# Altium footprint library MD_SODIMM-2.5V-PCB.PcbLib: 1 footprints
Each footprint in its own frame and in the unit in brackets; x right, y up, seen from the top. Pads: shape width x height; smd on the part's side, far side on the other; paste and mask are expansions set on the pad; w line width, h text height; cw(c..) or ccw(c..) is an arc to the next point about the centre after c.
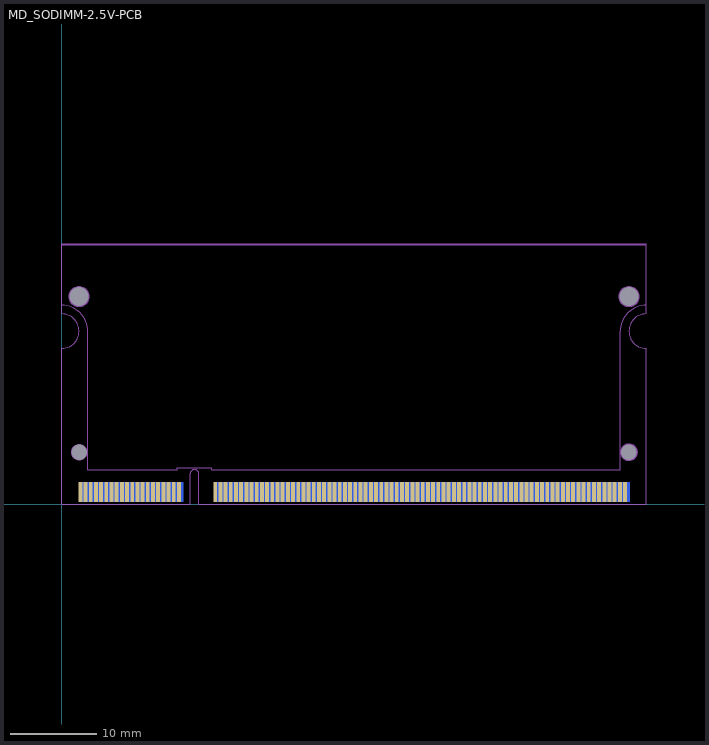
[diagram p0: the footprint, top view; thin cyan lines are the x and y axes]

## MD_SODIMM-2.5V-PCB [mm] "DDR1 & DDR2 200-pins SODIMM MODULE 0.6MM PITCH 2.5V"
pads (204):
  rect 0x0 hole 1.8 unplated mask+0.9: 0(2,6) 0(65.6,6)
  rect 0x0 hole 2.2 unplated mask+1.1: 0(2,24) 0(65.6,24)
  rect 0.45x2.3 smd paste-100: 1(2.15,1.4) 3(2.75,1.4) 5(3.35,1.4) 7(3.95,1.4) 9(4.55,1.4) 11(5.15,1.4) 13(5.75,1.4) 15(6.35,1.4) 17(6.95,1.4) 19(7.55,1.4) 21(8.15,1.4) 23(8.75,1.4) 25(9.35,1.4) 27(9.95,1.4) 29(10.55,1.4) 31(11.15,1.4) 33(11.75,1.4) 35(12.35,1.4) 37(12.95,1.4) 39(13.55,1.4) 41(17.75,1.4) 43(18.35,1.4) 45(18.95,1.4) 47(19.55,1.4) 49(20.15,1.4) 51(20.75,1.4) 53(21.35,1.4) 55(21.95,1.4) 57(22.55,1.4) 59(23.15,1.4) 61(23.75,1.4) 63(24.35,1.4) 65(24.95,1.4) 67(25.55,1.4) 69(26.15,1.4) 71(26.75,1.4) 73(27.35,1.4) 75(27.95,1.4) 77(28.55,1.4) 79(29.15,1.4) 81(29.75,1.4) 83(30.35,1.4) 85(30.95,1.4) 87(31.55,1.4) 89(32.15,1.4) 91(32.75,1.4) 93(33.35,1.4) 95(33.95,1.4) 97(34.55,1.4) 99(35.15,1.4) 101(35.75,1.4) 103(36.35,1.4) 105(36.95,1.4) 107(37.55,1.4) 109(38.15,1.4) 111(38.75,1.4) 113(39.35,1.4) 115(39.95,1.4) 117(40.55,1.4) 119(41.15,1.4) 121(41.75,1.4) 123(42.35,1.4) 125(42.95,1.4) 127(43.55,1.4) 129(44.15,1.4) 131(44.75,1.4) 133(45.35,1.4) 135(45.95,1.4) 137(46.55,1.4) 139(47.15,1.4) 141(47.75,1.4) 143(48.35,1.4) 145(48.95,1.4) 147(49.55,1.4) 149(50.15,1.4) 151(50.75,1.4) 153(51.35,1.4) 155(51.95,1.4) 157(52.55,1.4) 159(53.15,1.4) 161(53.75,1.4) 163(54.35,1.4) 165(54.95,1.4) 167(55.55,1.4) 169(56.15,1.4) 171(56.75,1.4) 173(57.35,1.4) 175(57.95,1.4) 177(58.55,1.4) 179(59.15,1.4) 181(59.75,1.4) 183(60.35,1.4) 185(60.95,1.4) 187(61.55,1.4) 189(62.15,1.4) 191(62.75,1.4) 193(63.35,1.4) 195(63.95,1.4) 197(64.55,1.4) 199(65.15,1.4)
  rect 0.45x2.3 smd far side paste-100: 2(2.45,1.4) 4(3.05,1.4) 6(3.65,1.4) 8(4.25,1.4) 10(4.85,1.4) 12(5.45,1.4) 14(6.05,1.4) 16(6.65,1.4) 18(7.25,1.4) 20(7.85,1.4) 22(8.45,1.4) 24(9.05,1.4) 26(9.65,1.4) 28(10.25,1.4) 30(10.85,1.4) 32(11.45,1.4) 34(12.05,1.4) 36(12.65,1.4) 38(13.25,1.4) 40(13.85,1.4) 42(18.05,1.4) 44(18.65,1.4) 46(19.25,1.4) 48(19.85,1.4) 50(20.45,1.4) 52(21.05,1.4) 54(21.65,1.4) 56(22.25,1.4) 58(22.85,1.4) 60(23.45,1.4) 62(24.05,1.4) 64(24.65,1.4) 66(25.25,1.4) 68(25.85,1.4) 70(26.45,1.4) 72(27.05,1.4) 74(27.65,1.4) 76(28.25,1.4) 78(28.85,1.4) 80(29.45,1.4) 82(30.05,1.4) 84(30.65,1.4) 86(31.25,1.4) 88(31.85,1.4) 90(32.45,1.4) 92(33.05,1.4) 94(33.65,1.4) 96(34.25,1.4) 98(34.85,1.4) 100(35.45,1.4) 102(36.05,1.4) 104(36.65,1.4) 106(37.25,1.4) 108(37.85,1.4) 110(38.45,1.4) 112(39.05,1.4) 114(39.65,1.4) 116(40.25,1.4) 118(40.85,1.4) 120(41.45,1.4) 122(42.05,1.4) 124(42.65,1.4) 126(43.25,1.4) 128(43.85,1.4) 130(44.45,1.4) 132(45.05,1.4) 134(45.65,1.4) 136(46.25,1.4) 138(46.85,1.4) 140(47.45,1.4) 142(48.05,1.4) 144(48.65,1.4) 146(49.25,1.4) 148(49.85,1.4) 150(50.45,1.4) 152(51.05,1.4) 154(51.65,1.4) 156(52.25,1.4) 158(52.85,1.4) 160(53.45,1.4) 162(54.05,1.4) 164(54.65,1.4) 166(55.25,1.4) 168(55.85,1.4) 170(56.45,1.4) 172(57.05,1.4) 174(57.65,1.4) 176(58.25,1.4) 178(58.85,1.4) 180(59.45,1.4) 182(60.05,1.4) 184(60.65,1.4) 186(61.25,1.4) 188(61.85,1.4) 190(62.45,1.4) 192(63.05,1.4) 194(63.65,1.4) 196(64.25,1.4) 198(64.85,1.4) 200(65.45,1.4)
Top Solder:
  rectangle: 0.9,0 67,2.73
Bottom Solder:
  rectangle: 0.9,0 67,2.73
Mechanical 3:
  lines w0.02: 0,23 cw(c0,20) 3,20 3,4 11.53,4 13.35,4 13.35,4.2 15.35,4.2 ; 0,30 67.6,30 67.6,23 ccw(c67.6,20) 64.6,20 64.6,4 19.7,4 17.35,4 17.35,4.2 15.36,4.2
  text "Component area" at 19.63,15.27 h2.54
Mechanical 8:
  circle w0.254: c2,6 r0.825
  circle w0.254: c2,24 r1.1
  circle w0.254: c65.6,24 r1.1
  circle w0.254: c65.6,6 r0.9
  lines w0.02: 0,0 14.85,0 14.85,3.5 cw(c15.35,3.5) 15.85,3.5 15.85,0 67.6,0 67.6,18 cw(c67.6,20) 67.6,22 67.6,30.1 0,30.1 0,22 cw(c0,20) 0,18 0,0
3D body: height -0.03, standoff -1.03, extent -0.001,-0.001 67.601,30.101